# Altium footprint library SMA_Edge.PcbLib: 1 footprints
Each footprint in its own frame and in the unit in brackets; x right, y up, seen from the top. Pads: shape width x height; smd on the part's side, far side on the other; paste and mask are expansions set on the pad; w line width, h text height; cw(c..) or ccw(c..) is an arc to the next point about the centre after c.
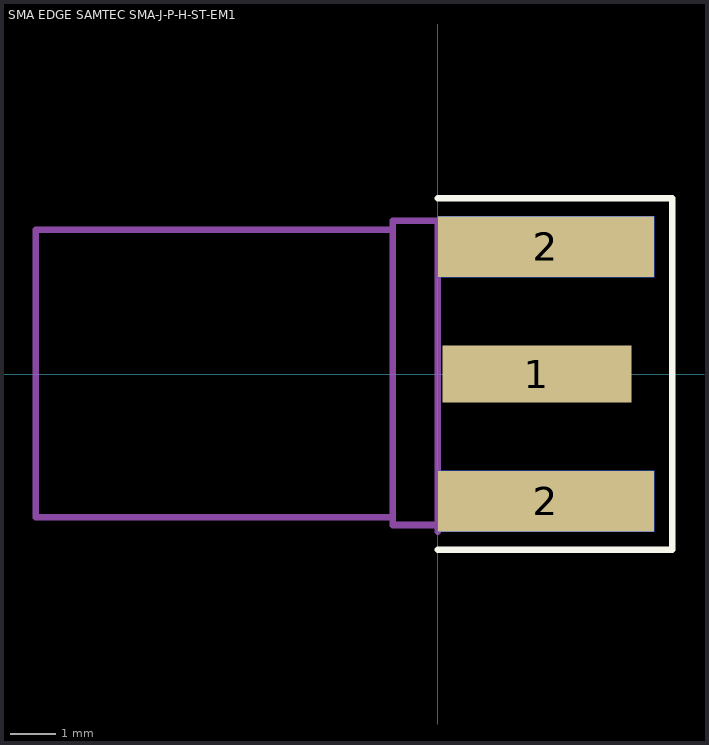
[diagram p0: the footprint, top view; thin cyan lines are the x and y axes]

## SMA EDGE SAMTEC SMA-J-P-H-ST-EM1 [mm] "Connector SMA, Board edge mount, Samtec SMA-J-P-H-ST-EM1"
height 3.6
pads (5):
  rect 4.2x1.27 smd: 1(2.2,0)
  rect 4.8x1.35 smd far side: 2(2.4,-2.825) 2(2.4,2.825)
  rect 4.8x1.35 smd: 2(2.4,-2.825) 2(2.4,2.825)
Top Overlay:
  lines w0.15: 0,-3.9 5.2,-3.9 5.2,3.9 0,3.9
Mechanical 1:
  lines w0.15: 0,-3.5 0,3.4
Mechanical 13:
  lines w0.15: -1,-3.2 -1,-3.176 -8.92,-3.176 -8.92,3.2 -1,3.2 ; 0,-2.25 4.6,-2.25 4.6,-3.35 0,-3.35 ; 0,0.4 0,0.5 ; 0,2.3 4.6,2.3 4.6,3.4 0,3.4 ; 0,-3.35 -1,-3.35 -1,3.4 0,3.4 ; 0,-3.35 0,3.4 ; 0,0.5 0,0.5
3D body "SMA-J-P-H-ST-EM1.stp": height 3.56, standoff -2.79, extent -8.92,-3.176 4.41,3.176